# EAGLE library part MCP73831T-2DCI/MC (library MCP73831T-2DCI_MC)
Check availability <https://pricing.snapeda.com/parts/MCP73831T-2DCI/MC/Microchip/view-part?ref=eda>
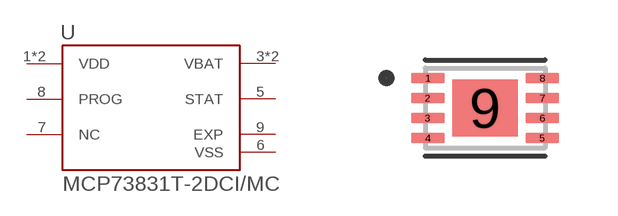
[diagram p0: symbol with the pads of SON50P200X300X100-9N; footprint SON50P200X300X100-9N]

Designator prefix U

## MCP73831T-2DCI/MC (Availability: In Stock; Description: Tiny Integrated Li-Ion/Li-Poly Charge mgnt controller, 4.2V Vreg out; MF: Microchip; MP: MCP73831T-2DCI/MC; Package: VFDFN-8 Microchip; Price: None; Purchase-URL: https://pricing.snapeda.com/search/part/MCP73831T-2DCI/MC/?ref=eda)  [SON50P200X300X100-9N]
1  VDD  in
2  VDD  in
3  VBAT  out
4  VBAT  out
5  STAT  out
6  VSS  pwr
7  NC  nc
8  PROG  in
9  EXP  pwr

## Footprint SON50P200X300X100-9N (pad centres in mm)
smd 0.84 x 0.27: 1 -1.435,0.75; 2 -1.435,0.25; 3 -1.435,-0.25; 4 -1.435,-0.75; 5 1.435,-0.75; 6 1.435,-0.25; 7 1.435,0.25; 8 1.435,0.75
smd 1.63 x 1.43: 9 0,0